# EAGLE library part JST-10 (library con-jst)
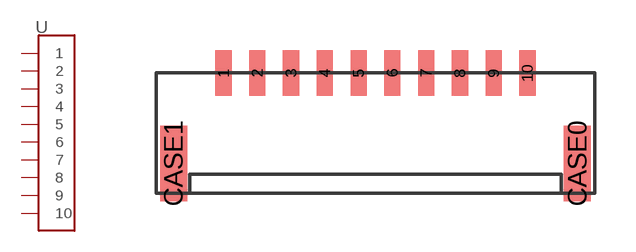
[diagram p2: symbol with the pads of GH-10-V; footprint GH-10-V]

Designator prefix -

## JST-10  [GH-10-V]
1  1
2  2
3  3
4  4
5  5
6  6
7  7
8  8
9  9
10  10

## Footprint GH-10-V (pad centres in mm)
smd 0.6 x 1.7: 1 -5.625,2.5; 2 -4.375,2.5; 3 -3.125,2.5; 4 -1.875,2.5; 5 -0.625,2.5; 6 0.625,2.5; 7 1.875,2.5; 8 3.125,2.5; 9 4.375,2.5; 10 5.625,2.5
smd 1 x 2.8: CASE0 7.475,-0.85; CASE1 -7.475,-0.85